# EAGLE library part SN65HVD230DR (library custom-devices)
SN65HVD230D: 3.3V CAN Bus Transceivers
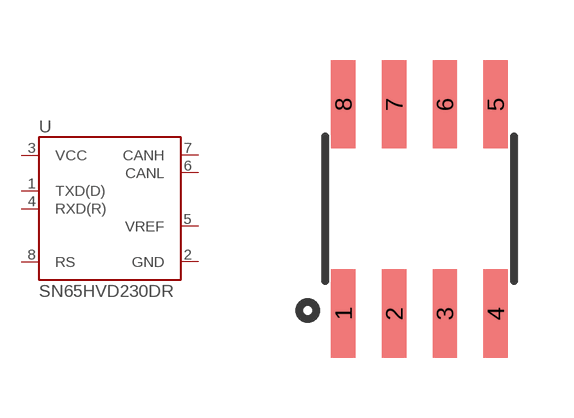
[diagram p30: symbol with the pads of SOIC-8; footprint SOIC-8]

Designator prefix U

## SN65HVD230DR (DIGI-KEY: 296-11654-1-ND)  [SOIC-8]
1  TXD(D)
2  GND
3  VCC
4  RXD(R)
5  VREF
6  CANL
7  CANH
8  RS

## Footprint SOIC-8 (pad centres in mm)
smd 0.61 x 2.21: 1 -1.905,-2.616; 2 -0.635,-2.616; 3 0.635,-2.616; 4 1.905,-2.616; 5 1.905,2.616; 6 0.635,2.616; 7 -0.635,2.616; 8 -1.905,2.616